# EAGLE library part MPU6050 (library home-mind)
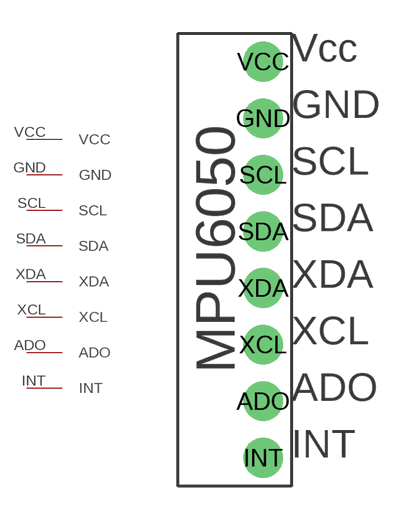
[diagram p5: symbol with the pads of MPU6050; footprint MPU6050]

Designator prefix -

## MPU6050  [MPU6050]
ADO  ADO
GND  GND
INT  INT
SCL  SCL
SDA  SDA
VCC  VCC
XCL  XCL
XDA  XDA

## Footprint MPU6050 (pad centres in mm)
drill 0.9 pad 1.778: ADO 0,-5.08; GND 0,7.62; INT 0,-7.62; SCL 0,5.08; SDA 0,2.54; VCC 0,10.16; XCL 0,-2.54; XDA 0,0